# Altium footprint library DFN8 2.5MMX2.5MM.PcbLib: 1 footprints
Each footprint in its own frame and in the unit in brackets; x right, y up, seen from the top. Pads: shape width x height; smd on the part's side, far side on the other; paste and mask are expansions set on the pad; w line width, h text height; cw(c..) or ccw(c..) is an arc to the next point about the centre after c.
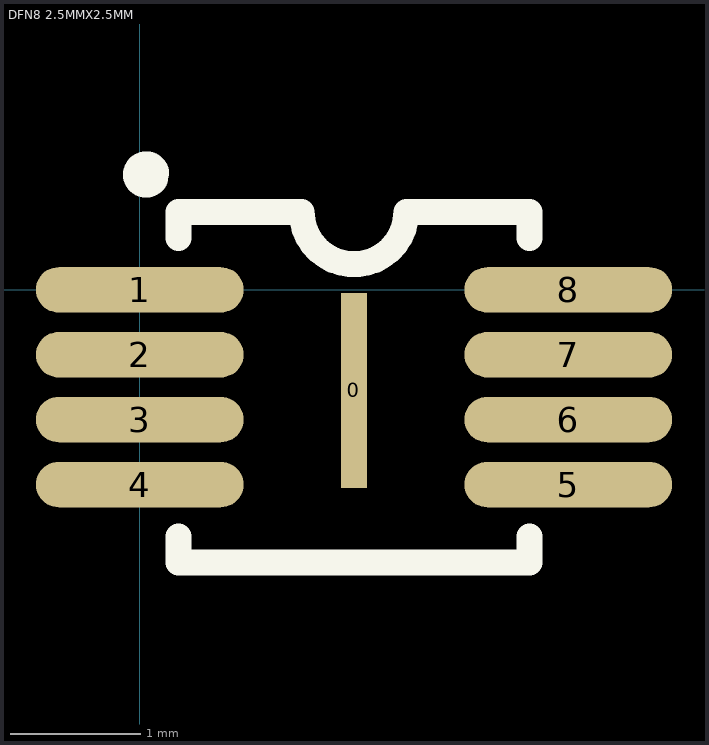
[diagram p0: the footprint, top view; thin cyan lines are the x and y axes]

## DFN8 2.5MMX2.5MM [mm]
pads (9):
  rect 0.2x1.5 smd: 0(1.65,-0.775)
  oval 1.6x0.35 smd: 1(0,0) 2(0,-0.5) 3(0,-1) 4(0,-1.5) 5(3.3,-1.5) 6(3.3,-1) 7(3.3,-0.5) 8(3.3,0)
Top Overlay:
  lines w0.2: 0.3,-1.9 0.3,-2.1 3,-2.1 3,-1.9 ; 0.3,0.4 0.3,0.6 1.247,0.6 ccw(c1.65,0.6) 2.053,0.6 3,0.6 3,0.4
  lines w0.254: 0.089,0.855 cw(c0.05,0.888) 0.1,0.9
3D body: height 0.6, standoff 0.05, extent 0.4,-2 2.9,0.5